# EAGLE library part CD4051BC (library NASA_LIB)
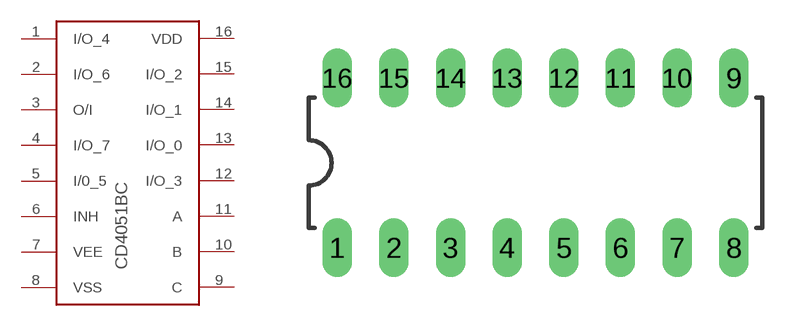
[diagram p4: symbol with the pads of DIP16; footprint DIP16]

Designator prefix -

## CD4051BC  [DIP16]
1  I/O_4
2  I/O_6
3  O/I
4  I/O_7
5  I/0_5
6  INH
7  VEE
8  VSS
9  C
10  B
11  A
12  I/O_3
13  I/O_0
14  I/O_1
15  I/O_2
16  VDD

## Footprint DIP16 (pad centres in mm)
drill 0.813 long: 1 -8.89,-3.81; 2 -6.35,-3.81; 3 -3.81,-3.81; 4 -1.27,-3.81; 5 1.27,-3.81; 6 3.81,-3.81; 7 6.35,-3.81; 8 8.89,-3.81; 9 8.89,3.81; 10 6.35,3.81; 11 3.81,3.81; 12 1.27,3.81; 13 -1.27,3.81; 14 -3.81,3.81; 15 -6.35,3.81; 16 -8.89,3.81